# Altium footprint library GCT_MEM2051-00-195-00-A.PcbLib: 1 footprints
Each footprint in its own frame and in the unit in brackets; x right, y up, seen from the top. Pads: shape width x height; smd on the part's side, far side on the other; paste and mask are expansions set on the pad; w line width, h text height; cw(c..) or ccw(c..) is an arc to the next point about the centre after c.
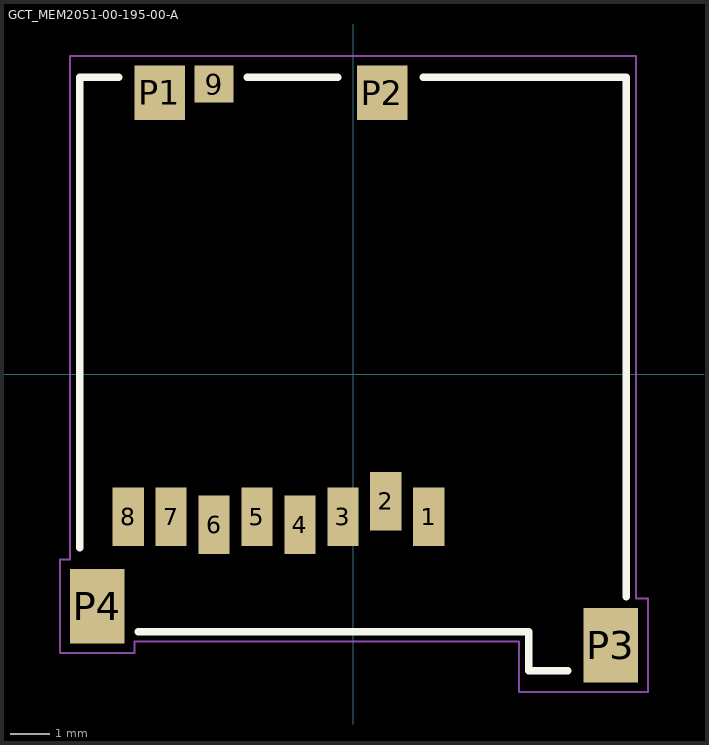
[diagram p0: the footprint, top view; thin cyan lines are the x and y axes]

## GCT_MEM2051-00-195-00-A [mm]
pads (13):
  rect 0.8x1.5 smd: 1(1.94,-3.66) 2(0.84,-3.26) 3(-0.26,-3.66) 4(-1.36,-3.86) 5(-2.46,-3.66) 6(-3.56,-3.86) 7(-4.66,-3.66) 8(-5.76,-3.66)
  rect 1x0.95 smd: 9(-3.56,7.425)
  rect 1.3x1.4 smd: P1(-4.95,7.2) P2(0.75,7.2)
  rect 1.4x1.9 smd: P3(6.6,-6.95) P4(-6.55,-5.95)
Top Overlay:
  lines w0.2: -7,-4.445 -7,7.6 -6,7.6 ; -5.5,-6.6 4.5,-6.6 4.5,-7.6 5.5,-7.6 ; -2.7,7.6 -0.4,7.6 ; 1.8,7.6 7,7.6 7,-5.7
Mechanical 15:
  lines w0.05: -7.5,-7.15 -7.5,-4.75 -7.25,-4.75 -7.25,8.15 7.25,8.15 7.25,-5.75 7.55,-5.75 7.55,-8.15 4.25,-8.15 4.25,-6.85 -5.6,-6.85 -5.6,-7.15 -7.5,-7.15
3D body "MEM2051-00-195-00-A--3DModel-STEP-1.STEP": height 1.96, standoff 0.01, extent -6.985,-7.65 7.115,7.65